# EAGLE library part ENC28J60 (library Public)
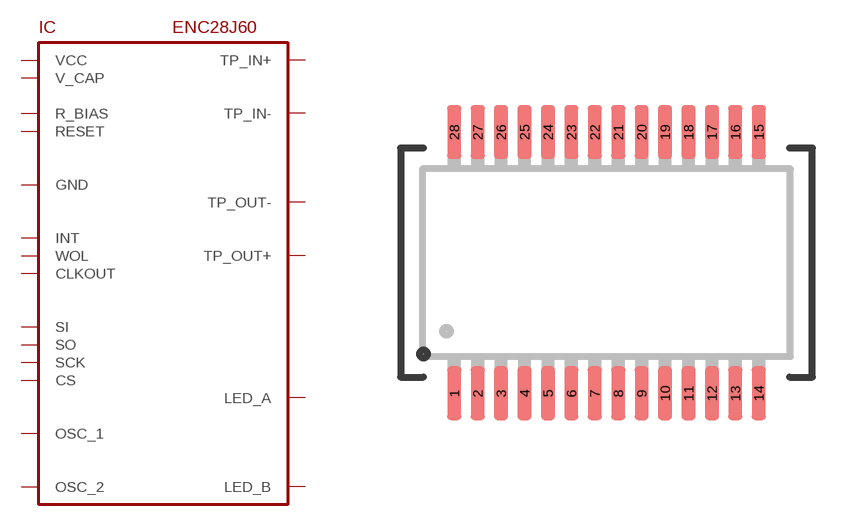
[diagram p33: symbol with the pads of SSOP28; footprint SSOP28]

Designator prefix IC

## ENC28J60  [SSOP28]
1  V_CAP
2  GND
3  CLKOUT
4  INT
5  WOL
6  SO
7  SI
8  SCK
9  CS
10  RESET
11  GND
12  TP_IN-
13  TP_IN+
14  R_BIAS
15  VCC
16  TP_OUT-
17  TP_OUT+
18  GND
19  VCC
20  VCC
21  GND
22  GND
23  OSC_1
24  OSC_2
25  VCC
26  LED_B
27  LED_A
28  VCC

## Footprint SSOP28 (pad centres in mm)
Shrink Small Outline Package package type SS
smd 0.4 x 1.5: 1 -4.225,-3.625; 2 -3.575,-3.625; 3 -2.925,-3.625; 4 -2.275,-3.625; 5 -1.625,-3.625; 6 -0.975,-3.625; 7 -0.325,-3.625; 8 0.325,-3.625; 9 0.975,-3.625; 10 1.625,-3.625; 11 2.275,-3.625; 12 2.925,-3.625; 13 3.575,-3.625; 14 4.225,-3.625; 15 4.225,3.625; 16 3.575,3.625; 17 2.925,3.625; 18 2.275,3.625; 19 1.625,3.625; 20 0.975,3.625; 21 0.325,3.625; 22 -0.325,3.625; 23 -0.975,3.625; 24 -1.625,3.625; 25 -2.275,3.625; 26 -2.925,3.625; 27 -3.575,3.625; 28 -4.225,3.625